# Altium schematic symbol library 5747844-5.SchLib: 1 symbol
Pins are listed as number, name and electrical type; pins without a type are passive.

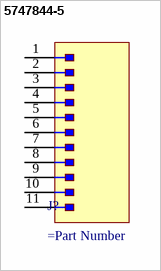
[diagram p0: symbol 5747844-5]

## 5747844-5
designator J?
=Description
pins: 1, 2, 3, 4, 5, 6, 7, 8, 9, 10 GND, 11 GND